# Altium schematic symbol library Gateway.SCHLIB: 27 symbols
Pins are listed as number, name and electrical type; pins without a type are passive.

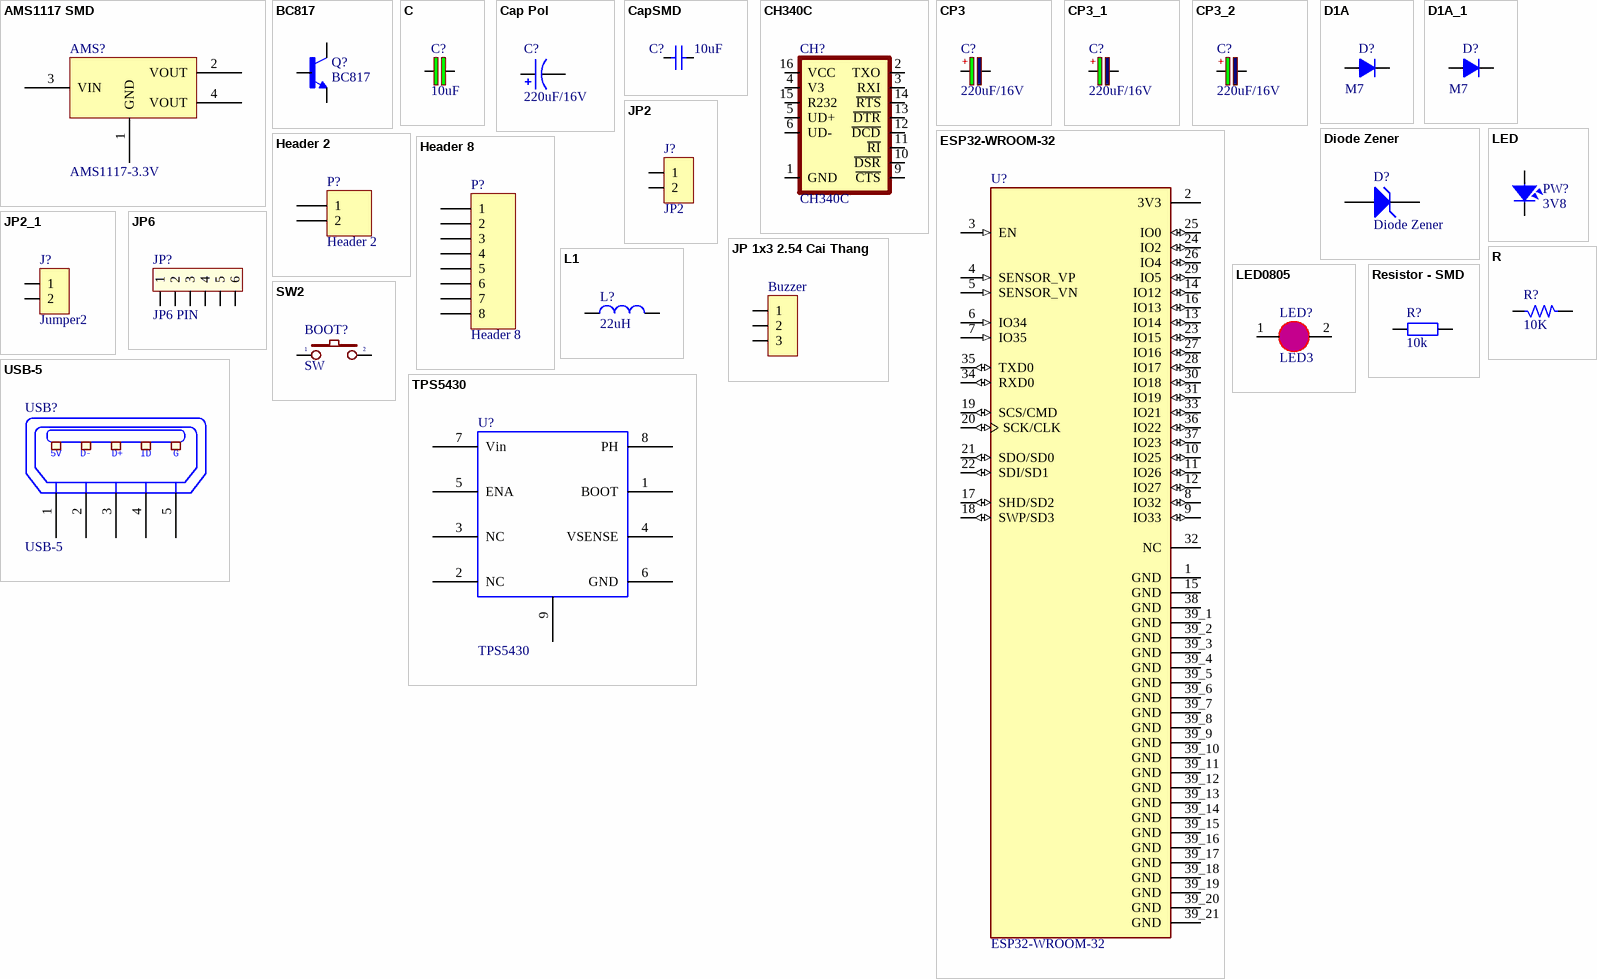
[diagram p0: symbols AMS1117 SMD to USB-5]

## AMS1117 SMD
designator AMS?, comment AMS1117-3.3V
Dán; Value: AMS1117-3.3V SOT223; Don_Vi: Con; Ma_Hang: MH000596; Ghi_Chu: *; Kieu_Chan: *; Chung_Loai: Dán
footprint SOT223
pins: 1 GND, 2 VOUT, 3 VIN, 4 VOUT

## BC817
designator Q?
Bipolar (BJT) Transistor NPN 45V 500mA 100MHz 250mW Surface Mount TO-236AB; MF: Rectron; MP: BC817; Value: *; SnapEDA_Link: https://www.snapeda.com/parts/BC817/Rectron/view-part/?ref=snap; Availability: In Stock; Purchase-URL: https://pricing.snapeda.com/search/part/BC817/?ref=eda; Package: SOT-23-3 Rectron; Price: None; Check_prices: https://www.snapeda.com/parts/BC817/Rectron/view-part/?ref=eda
footprint SOT95P230X110-3N
footprint SOT95P240X97-3N
pins: 1 B, 2 E, 3 C

## C
designator C?, comment 10uF
Cap SMD; Manufacturer: Samsung Electro-Mechanics; Part number: CL21A106KPFNNNG; User_Description: CAP CER 10UF 10V X5R 0805; Value: 10uF; Category: CAPACITOR; Package: 0805
footprint C-0805 (Compoment SMD 80x50mil)
footprint CAP_0603
footprint CAP_0805
pins: 1, 2

## Cap Pol
designator C?, comment 220uF/16V
Polarized Capacitor (Axial); Published: 8-Jun-2000; LatestRevisionDate: 17-Jul-2002; LatestRevisionNote: Re-released for DXP Platform.; PackageReference: POLAR0.8; Publisher: Altium Limited
footprint C3MM
footprint C5mm
footprint C8mm
footprint C10mm
footprint C12mm
footprint CAP_H12_D08
footprint CAP_H20_D10
footprint CAP_H17_D10
footprint C5mm
pins: 1, 2
1 alternate drawing of the same symbol

## CapSMD
designator C?, comment 10uF
Capacitor; Value: 33p; Published: 8-Jun-2000; LatestRevisionDate: 17-Jul-2002; LatestRevisionNote: Re-released for DXP Platform.; PackageReference: RAD-0.3; Publisher: Altium Limited
footprint CAP_0402
footprint CAP_0603
footprint CAP_0805
footprint CAP_1206
footprint CAP_3216
pins: 1, 2

## CH340C
designator CH?
USB to serial chip CH340; MF: WCH; Package: Package; Check_prices: https://www.snapeda.com/parts/CH340C/WCH/view-part/5428851/?ref=eda; Value: *; Price: None; MP: CH340C; Availability: Unavailable; SnapEDA_Link: https://www.snapeda.com/parts/CH340C/WCH/view-part/5428851/?ref=snap
footprint SOP-16
pins: 1 GND (io), 2 TXO (io), 3 RXI (io), 4 V3 (io), 5 UD+ (io), 6 UD- (io), 9 ~{CTS} (io), 10 ~{DSR} (io), 11 ~{RI} (io), 12 ~{DCD} (io), 13 ~{DTR} (io), 14 ~{RTS} (io), 15 R232 (io), 16 VCC (io)

## CP3
designator C?, comment 220uF/16V
Cap 470uF/63V; Value: Cap 470uF/63V
footprint CP_1000uF_25V
footprint CAP-ALU-SMD-C
footprint CAP-ALU-SMD-C
footprint CAP_0805
footprint CAP_D16
footprint CAP_D8
footprint C8mm
footprint CAP-ALU-SMD-F
pins: 1, 2
text: +

## CP3_1
designator C?, comment 220uF/16V
Cap 470uF/63V; Value: Cap 470uF/63V
footprint CP_1000uF_25V
footprint CAP-ALU-SMD-C
footprint RES-SMD-0603
footprint CAP_0603
footprint CAP-ALU-SMD-C
footprint CAP_0805
footprint CAP_D16
footprint CAP_D8
footprint C8mm
pins: 1, 2
text: +

## CP3_2
designator C?, comment 220uF/16V
Cap 470uF/63V; Value: Cap 470uF/63V
footprint CP_1000uF_25V
footprint CAP-ALU-SMD-C
footprint RES-SMD-0603
footprint CAP_0603
footprint CAP-ALU-SMD-C
footprint CAP_TANTALUM_3216
footprint CAP_D16
footprint CAP_D8
footprint C8mm
footprint C5mm
pins: 1, 2
text: +

## D1A
designator D?, comment M7
Diode 1A; Value: 1N4007
footprint SMA11 (SMAJ5.0A/CA,SMAJ24CA...)
footprint LED-0805-Blue
footprint SMA
footprint DIO-214AC(SMA) (DO-214AC Diode Smallest Size)
pins: 1 A, 2 K

## D1A_1
designator D?, comment M7
Diode 1A; Value: 1N4007
footprint SMA11 (SMAJ5.0A/CA,SMAJ24CA...)
footprint LED-0805-Blue
footprint SMA
footprint SMB
pins: 1 A, 2 K

## Diode Zener
designator D?
Zener Diode; Published: 8-Jun-2000; LatestRevisionDate: 17-Jul-2002; LatestRevisionNote: Re-released for DXP Platform.; PackageReference: DIODE-0.7; Publisher: Altium Limited
footprint DIODE/NOM/0.5A
footprint SMA
pins: 1 A, 2 K

## ESP32-WROOM-32
designator U?
Bluetooth, WiFi 802.11b/g/n, Bluetooth v4.2 +EDR, Class 1, 2 and 3 Transceiver Module 2.4GHz ~ 2.5GHz Antenna Not Included, U.FL Surface Mount; MF: Espressif Systems; Price: None; Availability: In Stock; MP: ESP32-WROOM-32; Package: Module Espressif Systems; SnapEDA_Link: https://www.snapeda.com/parts/ESP32-WROOM-32/Espressif+Systems/view-part/?ref=snap; Check_prices: https://www.snapeda.com/parts/ESP32-WROOM-32/Espressif+Systems/view-part/?ref=eda; Value: *; Purchase-URL: https://pricing.snapeda.com/search/part/ESP32-WROOM-32/?ref=eda
footprint MODULE_ESP32-WROOM-32
footprint MODULE_ESP32-WROOM-32
pins: 1 GND (power), 2 3V3 (power), 3 EN (in), 4 SENSOR_VP (in), 5 SENSOR_VN (in), 6 IO34 (in), 7 IO35 (in), 8 IO32 (io), 9 IO33 (io), 10 IO25 (io), 11 IO26 (io), 12 IO27 (io), 13 IO14 (io), 14 IO12 (io), 15 GND (power), 16 IO13 (io), 17 SHD/SD2 (io), 18 SWP/SD3 (io), 19 SCS/CMD (io), 20 SCK/CLK (io), 21 SDO/SD0 (io), 22 SDI/SD1 (io), 23 IO15 (io), 24 IO2 (io), 25 IO0 (io), 26 IO4 (io), 27 IO16 (io), 28 IO17 (io), 29 IO5 (io), 30 IO18 (io), 31 IO19 (io), 32 NC, 33 IO21 (io), 34 RXD0 (io), 35 TXD0 (io), 36 IO22 (io), 37 IO23 (io), 38 GND (power), 39_1 GND (power), 39_2 GND (power), 39_3 GND (power), 39_4 GND (power), 39_5 GND (power), 39_6 GND (power), 39_7 GND (power), 39_8 GND (power), 39_9 GND (power), 39_10 GND (power), 39_11 GND (power), 39_12 GND (power), 39_13 GND (power), 39_14 GND (power), 39_15 GND (power), 39_16 GND (power), 39_17 GND (power), 39_18 GND (power), 39_19 GND (power), 39_20 GND (power), 39_21 GND (power)

## Header 2
designator P?
Header, 2-Pin; LatestRevisionDate: 17-Jul-2002; LatestRevisionNote: Re-released for DXP Platform.; Publisher: Altium Limited
footprint PHeader 2 (Connector; Header; 2 Position)
footprint Header 2 (Connector; Header; 2 Position)
footprint TBlock 2 (Connector; Terminal; 2 Positions; Solder Pad 35mil)
footprint SHeader 2 (Connector; Header; Signal; 2 Positions; Solder Pad 35mil)
footprint DC Terminal (DC Terminal; Solder Pad 35mil)
footprint M_DC Terminal (DC Terminal; Manufacture-Solder Pad 24mil)
footprint PTBlock 2 (Connector; Terminal; Power; 2 Positions; Solder Pad 35mil)
footprint PHeader 2-V (Connector; Header; Power; 2 Position; Vertical; Solder Pad 35mil)
footprint Header 2-V (Connector; Header; 2 Position; Vertical; Solder Pad 35mil)
pins: 1, 2

## Header 8
designator P?
Header, 8-Pin; LatestRevisionDate: 17-Jul-2002; LatestRevisionNote: Re-released for DXP Platform.; Publisher: Altium Limited
footprint Header 8 (Connector; Header; 8 Position)
footprint Header 8-V (Connector; Header; 8 Position; Vertical; Solder Pad 35mil)
pins: 1, 2, 3, 4, 5, 6, 7, 8

## JP2
designator J?
WR-PHD 2.54 mm Angled Socket Header; Manufacturer: W¨¹rth Elektronik eiSos GmbH; partNo: 613002143121; ComponentLink1 Description: Manufacturer; ComponentLink2 Description: Datasheet; NoPins: 02; Created Date: 29 March 2013; ComponentLink1URL: http://www.we-online.com; ComponentLink2URL: http://katalog.we-online.de/em/datasheet/6130xx143121.pdf; Created by: Karrer Zheng
footprint JP2-C1T (2 row, straight, gold plating)
footprint JP2-CLOSED
footprint JP2-C1C (02p 1 row Right angle)
footprint JP2-D1C (2 pins, 1 row, right angled, gold plating)
footprint JP2-D1T (2 pins, 1 row, straight, gold plating)
footprint KF2-5.08
footprint CON2
pins: 1, 2

## JP2_1
designator J?, comment Jumper2
WR-PHD 2.54 mm Angled Socket Header; Manufacturer: W¨¹rth Elektronik eiSos GmbH; partNo: 613002143121; ComponentLink1 Description: Manufacturer; ComponentLink2 Description: Datasheet; NoPins: 02; Created Date: 29 March 2013; ComponentLink1URL: http://www.we-online.com; ComponentLink2URL: http://katalog.we-online.de/em/datasheet/6130xx143121.pdf; Created by: Karrer Zheng
footprint JP2-C1T (2 row, straight, gold plating)
footprint JP2-CLOSED
footprint JP2-C1C (02p 1 row Right angle)
footprint JP2-D1C (2 pins, 1 row, right angled, gold plating)
footprint JP2-D1T (2 pins, 1 row, straight, gold plating)
footprint JUMPER2
footprint CON2
pins: 1, 2

## JP6
designator JP?, comment JP6 PIN
Value: JP7
footprint JP6
footprint JP6H
pins: 1, 2, 3, 4, 5, 6

## JP 1x3 2.54 Cai Thang
designator JP?, comment Buzzer
Cắm; Ten_Linh_Kien: Jump Đơn Cái 2.54MM 1x20P Thẳng; Don_Vi: Con; Ma_Hang: MH004006; Ghi_Chu: *; Kieu_Chan: *; Chung_Loai: Cắm
footprint JP 1x3 CT
footprint JP3 (Jumper 3)
pins: 1, 2, 3

## L1
designator L?, comment 22uH
22µH Shielded Inductor 1.65A 96mOhm Max Nonstandard; Manufacturer: Bourns Inc.; Part Number: SRR0745A-220M; Value: 220uH; User_Description: FIXED IND 22UH 1.65A 96 MOHM SMD; Category: INDUCTORS; Package: SMD
footprint XL-cd74
footprint Inductor_SMD
footprint L-0805
pins: 1, 2

## LED
designator PW?, comment 3V8
LED RED DIFFUSED 0805 SMD; Manufacturer: OSRAM Opto Semiconductors Inc.; Part number: LS R976-NR-1; Value: Red; Category: LED SMD; Package: 0805; User_Description: LED RED DIFFUSED 0805 SMD
footprint LED-0805
footprint LED-0805-Blue
pins: 1, 2

## LED0805
designator LED?, comment LED3
LED SMD 0805
footprint LED0805 (Chip Resistor; Body 2.0 x 1.3 mm (LxW typ))
pins: 1 A, 2 K

## R
designator R?, comment 10K
RES SMD 10K OHM 1% 1/8W 0805; Manufacturer: Yageo; Part number: RC0805FR-0710KL; Category: RESISTORS; Package: 0805; User_Description: RES SMD 10K OHM 1% 1/8W 0805; Value: 10k
footprint R-0805 (Compoment SMD 80x50mil)
footprint RES-SMD-0603
footprint RES-SMD-0805
pins: 1, 2

## Resistor - SMD
designator R?, comment 10k
Resistor SMD; Manufacturer: Generic Components; Class: Passive; Published: 08/06/2000; Publisher: Altium Hobart Technology Centre
footprint RES-SMD-0101
footprint RES-SMD-0201
footprint RES-SMD-0603
footprint RES-SMD-0805
footprint RES-SMD-1206
footprint RES-SMD-1210 (Chip Capacitor, Body 3.2x2.5mm, IPC Medium Density)
footprint RES-SMD-1812 (Chip Capacitor, Body 3.2x2.5mm, IPC Medium Density)
footprint RES-SMD-2010 (Chip Capacitor, Body 3.2x2.5mm, IPC Medium Density)
footprint RES-SMD-2512 (Chip Capacitor, Body 3.2x2.5mm, IPC Medium Density)
footprint RES-SMD-0402
pins: 1, 2

## SW2
designator BOOT?, comment SW
Switch button 2 pin; Value: SW chip 2 pin
footprint SW2 (SW button 2pin, 250x 250 mil)
footprint SW-SMD
pins: 1, 2

## TPS5430
designator U?
Name: TPS5430
footprint TPS5430-1
footprint TPS5430-2
footprint TPS5430-2
pins: 1 BOOT, 2 NC, 3 NC, 4 VSENSE, 5 ENA, 6 GND, 7 Vin, 8 PH, 9 PWR_PAD

## USB-5
designator USB?
Manufacturer: FCI; Manufacturer Part Number: 10118193-0001LF; Connector Type: USB - micro B; Number of Contacts: 5; Gender: Receptacle; Specifications: USB 2.0; .Creator: MM; .Checked PCB: RF; Supplier 1: Digi-Key; RoHS: RoHS Compliant; Category: Connectors, Interconnects; Stock 1: 28642; Pricing 1: 1=0.46, 10=0.433, 25=0.3712, 50=0.3156, 100=0.3032, 250=0.27224, 500=0.25988 (USD); Packaging: Cut Tape (CT); Mounting Type: Surface Mount, Right Angle, Horizontal; Features: Shielded, Solder Retention; Ingress Protection: -; ComponentLink1URL: http://portal.fciconnect.com/Comergent//fci/drawing/10118193.pdf; ComponentLink1Description: http://portal.fciconnect.com/Comergent//fci/drawing/10118193.pdf; Supplier Part Number 1: 609-4616-1-ND; .Checked SCH: MM
footprint USB-M1
footprint USB-M2
footprint USB-M3
footprint USB-M4
footprint USB-M5
footprint USB-M6 (MOLEX 51387-0571)
footprint USB-M7
pins: 1 P1, 2 P2, 3 P3, 4 P4, 5 P5
text: 5V; D-; D+; ID; G